# EAGLE library part ST890C (library ronny)
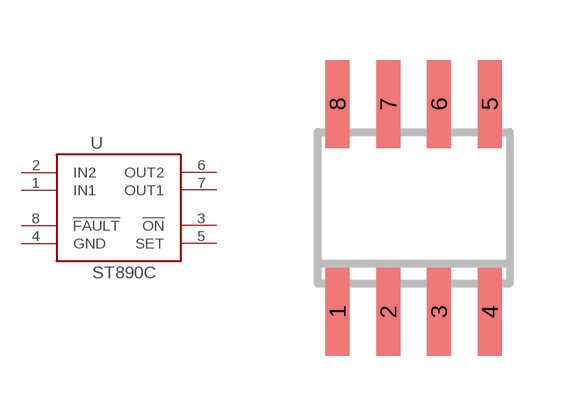
[diagram p0: symbol with the pads of SO-08; footprint SO-08]

Designator prefix -

## ST890C  [SO-08]
1  IN1  in
2  IN2  in
3  !ON  in
4  GND  pwr
5  SET  in
6  OUT2  out
7  OUT1  out
8  !FAULT  out

## Footprint SO-08 (pad centres in mm)
Small Outline Narrow Plastic Gull Wing 150-mil body, package type SN
smd 0.6 x 2.2: 1 -1.905,-2.6; 2 -0.635,-2.6; 3 0.635,-2.6; 4 1.905,-2.6; 5 1.905,2.6; 6 0.635,2.6; 7 -0.635,2.6; 8 -1.905,2.6